# EAGLE library part PIC32MZ2048EFH100 (library microcontrollers)
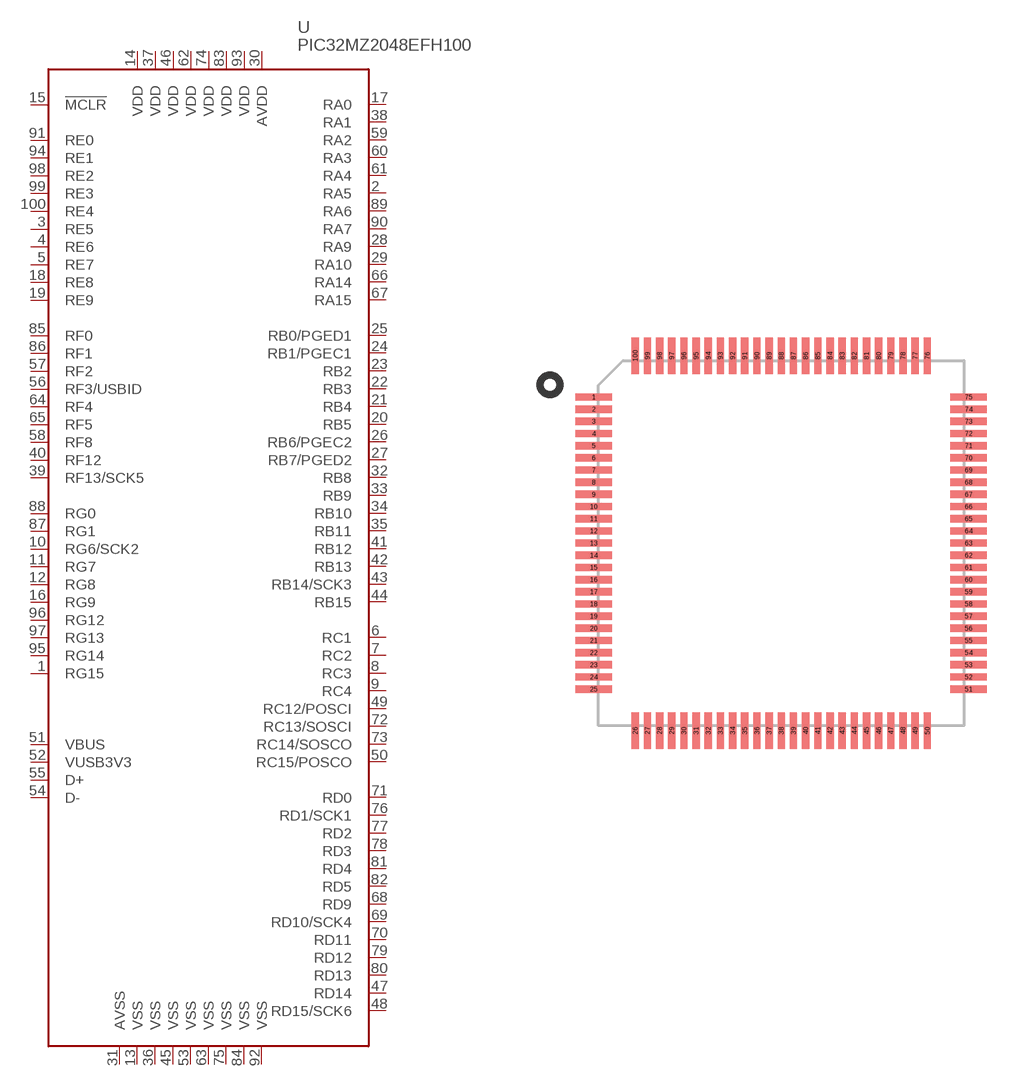
[diagram p1: symbol with the pads of TQFP100; footprint TQFP100]

Designator prefix U

## PIC32MZ2048EFH100M (PACKAGE: TQFP100_P050_1400x1400)  [TQFP100]
1  RG15
2  RA5
3  RE5
4  RE6
5  RE7
6  RC1
7  RC2
8  RC3
9  RC4
10  RG6/SCK2
11  RG7
12  RG8
13  VSS
14  VDD
15  !MCLR
16  RG9
17  RA0
18  RE8
19  RE9
20  RB5
21  RB4
22  RB3
23  RB2
24  RB1/PGEC1
25  RB0/PGED1
26  RB6/PGEC2
27  RB7/PGED2
28  RA9
29  RA10
30  AVDD
31  AVSS
32  RB8
33  RB9
34  RB10
35  RB11
36  VSS
37  VDD
38  RA1
39  RF13/SCK5
40  RF12
41  RB12
42  RB13
43  RB14/SCK3
44  RB15
45  VSS
46  VDD
47  RD14
48  RD15/SCK6
49  RC12/POSCI
50  RC15/POSCO
51  VBUS
52  VUSB3V3
53  VSS
54  D-
55  D+
56  RF3/USBID
57  RF2
58  RF8
59  RA2
60  RA3
61  RA4
62  VDD
63  VSS
64  RF4
65  RF5
66  RA14
67  RA15
68  RD9
69  RD10/SCK4
70  RD11
71  RD0
72  RC13/SOSCI
73  RC14/SOSCO
74  VDD
75  VSS
76  RD1/SCK1
77  RD2
78  RD3
79  RD12
80  RD13
81  RD4
82  RD5
83  VDD
84  VSS
85  RF0
86  RF1
87  RG1
88  RG0
89  RA6
90  RA7
91  RE0
92  VSS
93  VDD
94  RE1
95  RG14
96  RG12
97  RG13
98  RE2
99  RE3
100  RE4

## Footprint TQFP100 (pad centres in mm)
smd 1.5 x 0.3: 1 -7.7,6; 2 -7.7,5.5; 3 -7.7,5; 4 -7.7,4.5; 5 -7.7,4; 6 -7.7,3.5; 7 -7.7,3; 8 -7.7,2.5; 9 -7.7,2; 10 -7.7,1.5; 11 -7.7,1; 12 -7.7,0.5; 13 -7.7,0; 14 -7.7,-0.5; 15 -7.7,-1; 16 -7.7,-1.5; 17 -7.7,-2; 18 -7.7,-2.5; 19 -7.7,-3; 20 -7.7,-3.5; 21 -7.7,-4; 22 -7.7,-4.5; 23 -7.7,-5; 24 -7.7,-5.5; 25 -7.7,-6; 51 7.7,-6; 52 7.7,-5.5; 53 7.7,-5; 54 7.7,-4.5; 55 7.7,-4; 56 7.7,-3.5; 57 7.7,-3; 58 7.7,-2.5; 59 7.7,-2; 60 7.7,-1.5; 61 7.7,-1; 62 7.7,-0.5; 63 7.7,0; 64 7.7,0.5; 65 7.7,1; 66 7.7,1.5; 67 7.7,2; 68 7.7,2.5; 69 7.7,3; 70 7.7,3.5; 71 7.7,4; 72 7.7,4.5; 73 7.7,5; 74 7.7,5.5; 75 7.7,6
smd 0.3 x 1.5: 26 -6,-7.7; 27 -5.5,-7.7; 28 -5,-7.7; 29 -4.5,-7.7; 30 -4,-7.7; 31 -3.5,-7.7; 32 -3,-7.7; 33 -2.5,-7.7; 34 -2,-7.7; 35 -1.5,-7.7; 36 -1,-7.7; 37 -0.5,-7.7; 38 0,-7.7; 39 0.5,-7.7; 40 1,-7.7; 41 1.5,-7.7; 42 2,-7.7; 43 2.5,-7.7; 44 3,-7.7; 45 3.5,-7.7; 46 4,-7.7; 47 4.5,-7.7; 48 5,-7.7; 49 5.5,-7.7; 50 6,-7.7; 76 6,7.7; 77 5.5,7.7; 78 5,7.7; 79 4.5,7.7; 80 4,7.7; 81 3.5,7.7; 82 3,7.7; 83 2.5,7.7; 84 2,7.7; 85 1.5,7.7; 86 1,7.7; 87 0.5,7.7; 88 0,7.7; 89 -0.5,7.7; 90 -1,7.7; 91 -1.5,7.7; 92 -2,7.7; 93 -2.5,7.7; 94 -3,7.7; 95 -3.5,7.7; 96 -4,7.7; 97 -4.5,7.7; 98 -5,7.7; 99 -5.5,7.7; 100 -6,7.7